# Altium integrated library PESD1CAN.IntLib: 1 symbol
Pins are listed as number, name and electrical type; pins without a type are passive.

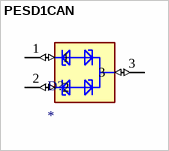
[diagram p0: symbol PESD1CAN]

## PESD1CAN
designator D?
50V Clamp 3A (8/20Âµs) Ipp Tvs Diode Surface Mount SOT-323; MF: Nexperia USA; MP: PESD1CAN; SnapEDA_Link: https://www.snapeda.com/parts/PESD1CAN/Nexperia/view-part/?ref=snap; Package: SOT-23-3 NXP Semiconductors; Value: *; Check_prices: https://www.snapeda.com/parts/PESD1CAN/Nexperia/view-part/?ref=eda
footprint SOT23-3
pins: 1 (io), 2 (io), 3 (io)